# Altium schematic symbol library ESD224DQAR.SchLib: 1 symbol
Pins are listed as number, name and electrical type; pins without a type are passive.

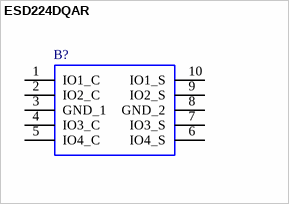
[diagram p0: symbol ESD224DQAR]

## ESD224DQAR
designator B?
4-Channel Low Clamping ESD Protection Device for HDMI Interface; Manufacturer_Name: Texas Instruments; Geometry.Height: 0.55mm; Manufacturer_Part_Number: ESD224DQAR; Mouser Part Number: 595-ESD224DQAR; Mouser Price/Stock: https://www.mouser.co.uk/ProductDetail/Texas-Instruments/ESD224DQAR?qs=F5EMLAvA7IDFPTOz5JtaBw%3D%3D; Arrow Part Number: ESD224DQAR; Arrow Price/Stock: https://www.arrow.com/en/products/esd224dqar/texas-instruments?region=nac; Mouser Testing Part Number: *; Mouser Testing Price/Stock: *; Datasheet Link: http://www.ti.com/lit/gpn/esd224
footprint ESD224DQAR
pins: 1 IO1_C, 2 IO2_C, 3 GND_1, 4 IO3_C, 5 IO4_C, 6 IO4_S, 7 IO3_S, 8 GND_2, 9 IO2_S, 10 IO1_S